# EAGLE library part MOLEX_PICO_LOCK (library 5040500691)
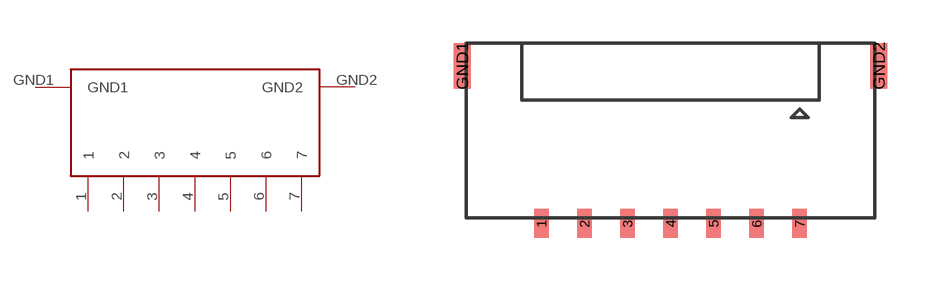
[diagram p0: symbol with the pads of 5040500791; footprint 5040500791]

Designator prefix -

## MOLEX_PICO_LOCK  [5040500791]
1  1
2  2
3  3
4  4
5  5
6  6
7  7
GND1  GND1
GND2  GND2

## Footprint 5040500791 (pad centres in mm)
smd 0.5 x 1: 1 -4.5,-0.2; 2 -3,-0.2; 3 -1.5,-0.2; 4 0,-0.2; 5 1.5,-0.2; 6 3,-0.2; 7 4.5,-0.2
smd 0.6 x 1.6: GND1 -7.26,5.3; GND2 7.26,5.3